# Altium schematic symbol library Components - 25.09.24 - 14.26.SchLib: 1 symbol
Pins are listed as number, name and electrical type; pins without a type are passive.

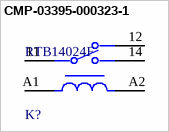
[diagram p0: symbol CMP-03395-000323-1]

## CMP-03395-000323-1
designator K?, comment RTB14024F
RELAY GEN PURPOSE SPDT 12A 24V; Operate Time: 8ms; Approvals: CSA; Coil Type: Non-Latching; Release Time: 6ms; Voltage Rating (AC): 400V; Contact Voltage Rating (AC): 250V; Power Rating: 400mW; Application(s): GENERAL PURPOSE; Coil Current: 16.7mA; Dropout Voltage: 2.4V; Coil Resistance: 1.44kR; Termination: Plug; Current Rating: 12A; Coil Voltage (DC): 24V; Throw Configuration: SPDT; Width: 12.7mm; Radiation Hardening: No; Lead Free: Lead Free; Length: 29mm; Number of Pins: 5; RoHS Compliant: Yes; Package Quantity: 20; ELV: Compliant; Series: RT1; Contact Current Rating: 12A; Mount: Through Hole; Weight: 0.494oz; Power Consumption: 400mW; Voltage Rating (DC): 24V; Coil Power: 400mW; Min Operating Temperature: -40°C; Max Operating Temperature: 85°C; Relay Type: General Purpose; Contact Material: Silver; Max Voltage Rating (AC): 400V; Packaging: Carton; Depth: 12.7mm; Height: 15.7mm
footprint FP-RTB14024F-MFG
pins: 11, 12, 14, A1, A2